# Altium schematic symbol library Schlib1.SchLib: 12 symbols
Pins are listed as number, name and electrical type; pins without a type are passive.

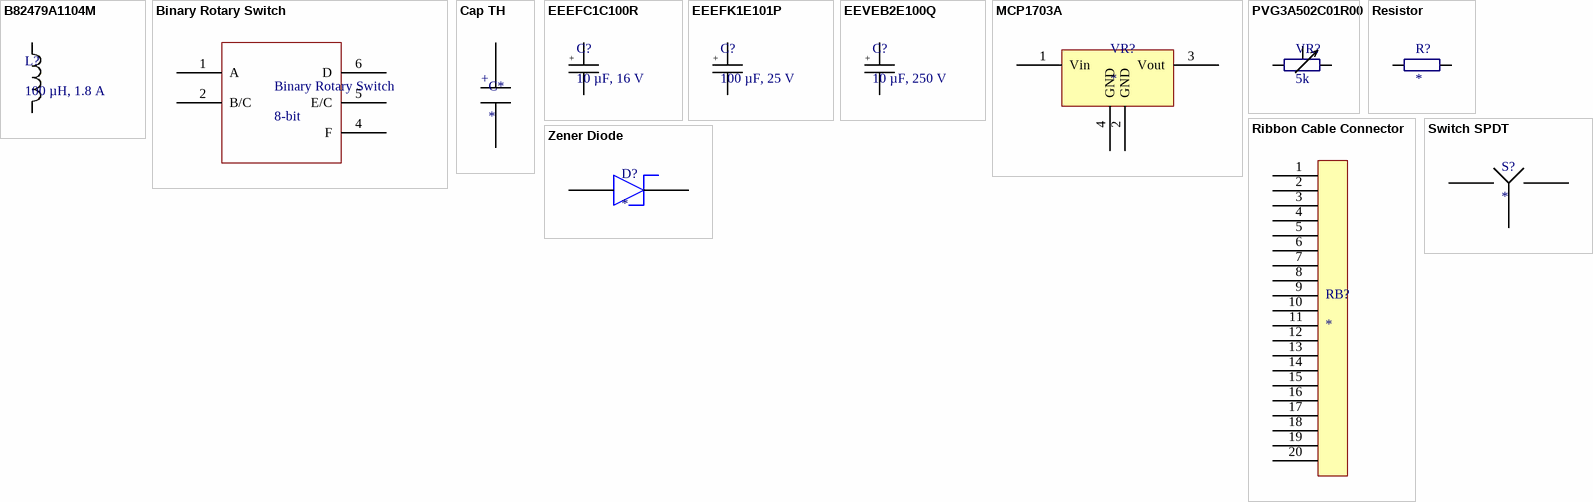
[diagram p0: symbols B82479A1104M to Zener Diode]

## B82479A1104M
designator L?, comment 100 µH, 1.8 A
footprint B82479A1 (Inductor)
pins: 1, 2

## Binary Rotary Switch
designator Binary Rotary Switch, comment 8-bit
footprint DIP6
pins: 1 A, 2 B/C, 4 F, 5 E/C, 6 D

## Cap TH
designator C*
footprint Capacitor
pins: 1, 2
text: +

## EEEFC1C100R
designator C?, comment 10 µF, 16 V
ComponentLink1Description: farnell; ComponentLink1URL: https://no.farnell.com/panasonic/eeefc1c100r/cap-10-f-16v-radial-smd/dp/9693491
footprint CAPAE5542X55M (Aluminum Electrolytic Capacitor, Body 4,20x4,20x5,50mm, IPC Low Density)
pins: 1, 2
text: +

## EEEFK1E101P
designator C?, comment 100 µF, 25 V
ComponentLink1Description: farnell; ComponentLink1URL: https://no.farnell.com/panasonic/eeefk1e101p/cap-100-f-25v-radial-smd/dp/9695770
footprint CAPAE9583X65M (Aluminum Electrolytic Capacitor, Body 8,30x8,30x6,50mm, IPC Low Density)
pins: 1, 2
text: +

## EEVEB2E100Q
designator C?, comment 10 µF, 250 V
ComponentLink1Description: Farnell; ComponentLink1URL: https://no.farnell.com/panasonic/eeveb2e100q/cap-10-f-250v-radial-smd/dp/2326345?st=eeveb2e100q; ComponentLink2Description: Datasheet; ComponentLink2URL: http://www.farnell.com/datasheets/2245254.pdf; Parameter 1: *
footprint CAPAE112103X170M (Aluminum Electrolytic Capacitor, Body 10,30x10,30x17,00mm, IPC Low Density)
pins: 1, 2
text: +

## MCP1703A
designator VR?
ComponentLink1Description: datasheet; ComponentLink1URL: http://ww1.microchip.com/downloads/en/DeviceDoc/20005122B.pdf; ComponentLink2Description: farnell; ComponentLink2URL: https://no.farnell.com/microchip/mcp1703a-5002e-db/ldo-16vin-0-25a-5v-2-3sot223/dp/2113889?st=MCP1703A
footprint SOT230P700X180-4N (SOT223, 4-Leads, Body 6,50x7,00mm (avg), Pitch 2,30mm, IPC Medium Density)
pins: 1 Vin, 2 GND, 3 Vout, 4 GND

## PVG3A502C01R00
designator VR?, comment 5k
ComponentLink1Description: farnell; ComponentLink1URL: https://no.farnell.com/bourns/pvg3a502c01r00/trimmer-pot-5k-1turn-smd/dp/2709479
footprint PVG3A trimpot
pins: 1, 2, 3

## Resistor
designator R?
pins: 1, 2

## Ribbon Cable Connector
designator RB?
footprint 20 pad th connector
pins: 1, 2, 3, 4, 5, 6, 7, 8, 9 K, 10, 11, 12, 13, 14, 15 K, 16, 17, 18, 19, 20

## Switch SPDT
designator S?
footprint 3TH
pins: 1 K, 2 K, 3 K

## Zener Diode
designator D?
footprint DO219-AB (SMF)
pins: 1 K, 2 K